# Altium schematic symbol library GPIO_INTERFACE.SchLib: 1 symbol
Pins are listed as number, name and electrical type; pins without a type are passive.

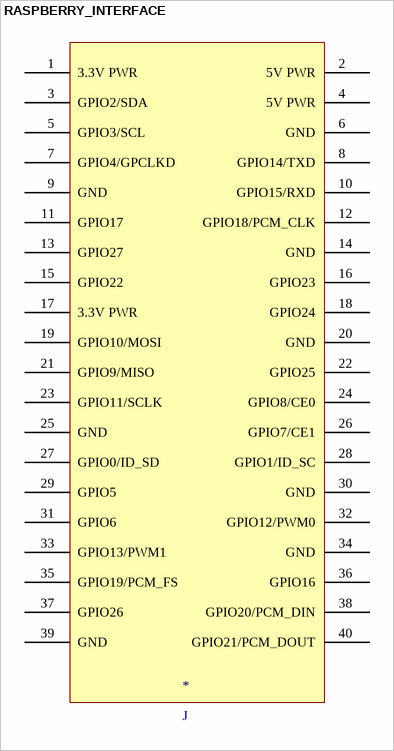
[diagram p0: symbol RASPBERRY_INTERFACE]

## RASPBERRY_INTERFACE
designator *, comment J
RASPBERRY_INTERFACE
footprint GPIO_INTERFACE
pins: 1 3.3V PWR, 2 5V PWR, 3 GPIO2/SDA, 4 5V PWR, 5 GPIO3/SCL, 6 GND, 7 GPIO4/GPCLKD, 8 GPIO14/TXD, 9 GND, 10 GPIO15/RXD, 11 GPIO17, 12 GPIO18/PCM_CLK, 13 GPIO27, 14 GND, 15 GPIO22, 16 GPIO23, 17 3.3V PWR, 18 GPIO24, 19 GPIO10/MOSI, 20 GND, 21 GPIO9/MISO, 22 GPIO25, 23 GPIO11/SCLK, 24 GPIO8/CE0, 25 GND, 26 GPIO7/CE1, 27 GPIO0/ID_SD, 28 GPIO1/ID_SC, 29 GPIO5, 30 GND, 31 GPIO6, 32 GPIO12/PWM0, 33 GPIO13/PWM1, 34 GND, 35 GPIO19/PCM_FS, 36 GPIO16, 37 GPIO26, 38 GPIO20/PCM_DIN, 39 GND, 40 GPIO21/PCM_DOUT